# Altium integrated library Receiver.IntLib: 89 symbols (part 2 of 3)
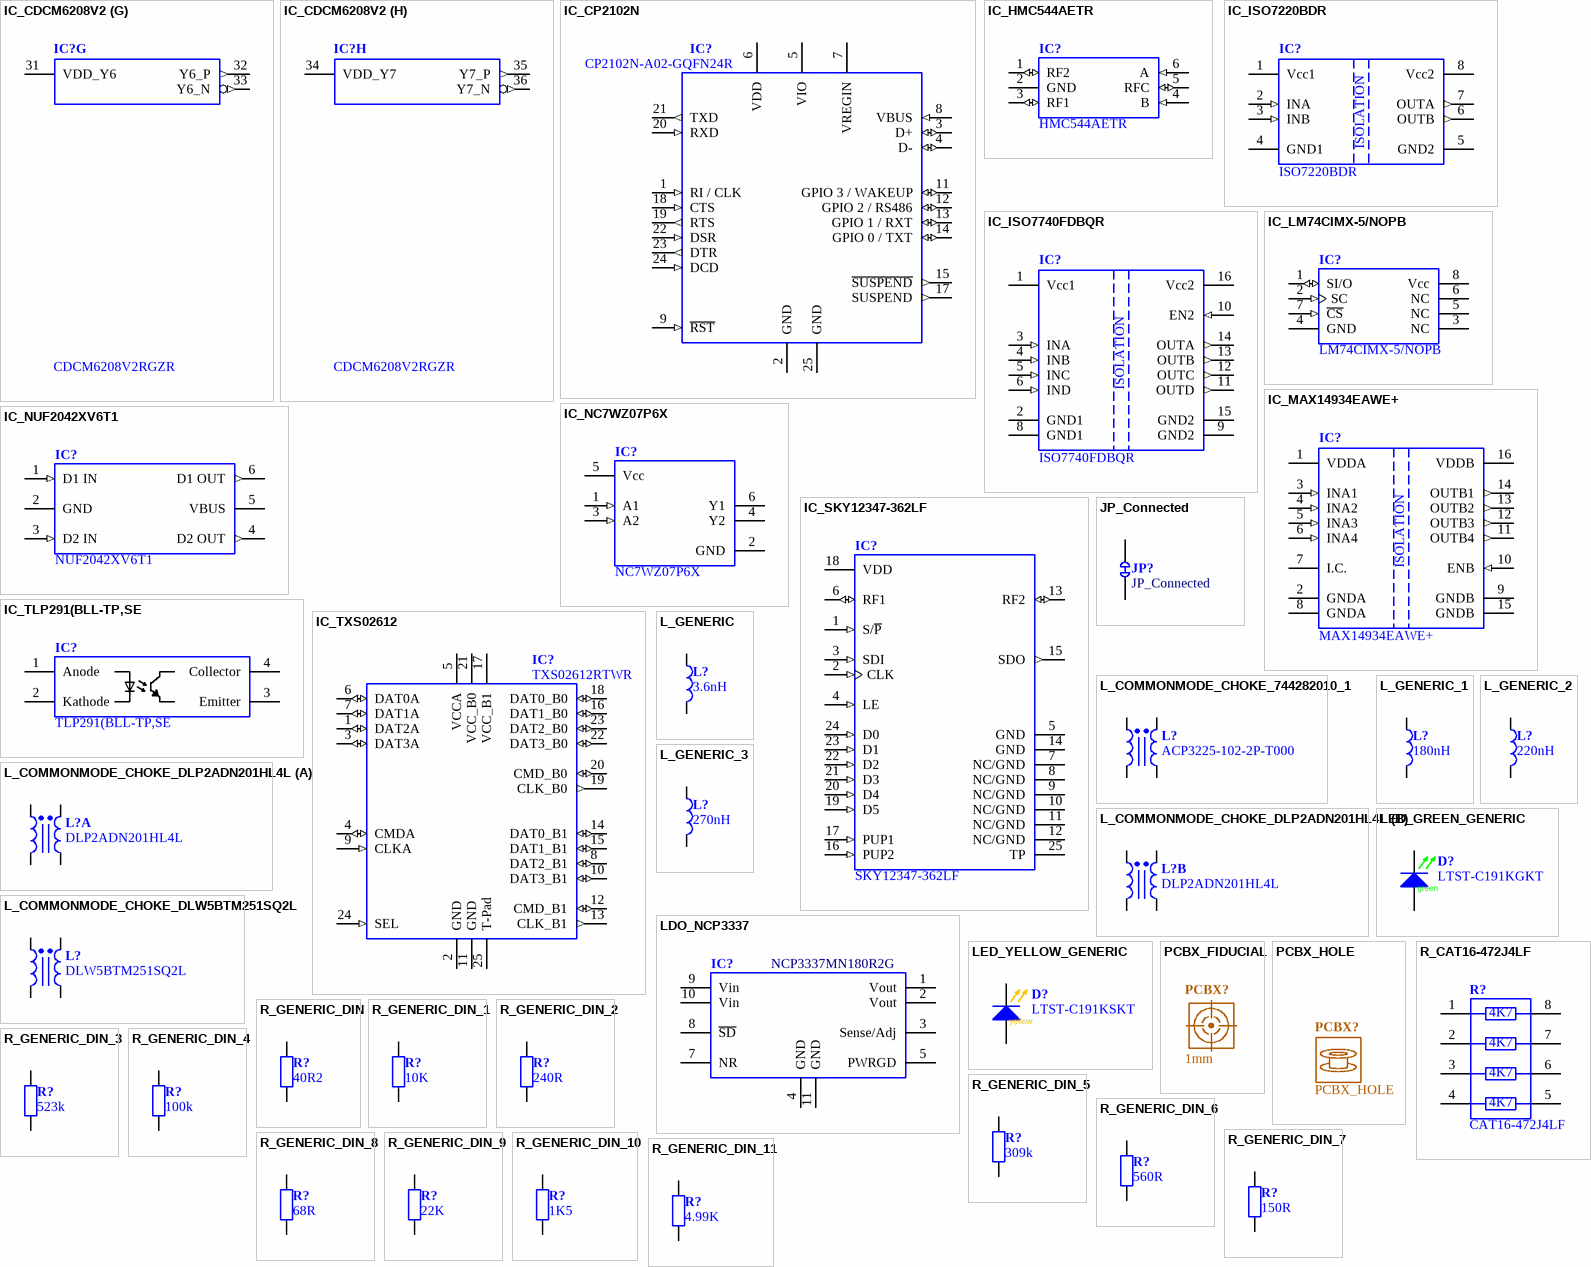
[diagram p3: symbols IC_CDCM6208V2 to R_GENERIC_DIN_11]

## IC_ISO7220BDR
designator IC?, comment ISO7220BDR
Dual-Channel Digital Isolator / Vcc: 3V3 or 5 V Supply / 4 kV ESD protection; Prometheus_Manufacturer: Texas Instruments; Prometheus_ManPartNo: ISO7220BDR; Prometheus_Comment: ISO7220BDR; DatasheetURL: https://www.ti.com/lit/ds/symlink/iso7220a.pdf
footprint SOIC127P600X175-8N IPC (SOIC, 8-Leads, Body 4.90x3.90mm, Pitch 1.27mm, IPC Medium Density)
pins: 1 Vcc1, 2 INA (in), 3 INB (in), 4 GND1, 5 GND2, 6 OUTB (out), 7 OUTA (out), 8 Vcc2
text: ISOLATION

## IC_ISO7740FDBQR
designator IC?, comment ISO7740FDBQR
High-Speed, Robust-EMC Reinforced Quad-Channel Digital Isolators / 100 Mbps data rate / Vcc: 2.25 V ... 5.5 V / 2.25 V to 5.5 V level translation; Prometheus_Manufacturer: Texas Instruments; Prometheus_ManPartNo: ISO7740FDBQR; Prometheus_Comment: ISO7740FDBQR; DatasheetURL: https://www.ti.com/lit/ds/symlink/iso7742.pdf
footprint SOP64P600X175-16N IPC (SOP, 16-Leads, Body 4.91x3.90mm, Pitch 0.64mm, IPC Medium Density)
pins: 1 Vcc1, 2 GND1, 3 INA (in), 4 INB (in), 5 INC (in), 6 IND (in), 8 GND1, 9 GND2, 10 EN2 (in), 11 OUTD (out), 12 OUTC (out), 13 OUTB (out), 14 OUTA (out), 15 GND2, 16 Vcc2
text: ISOLATION

## IC_LM74CIMX-5/NOPB
designator IC?, comment LM74CIMX-5/NOPB
SPI 12-Bit Plus Sign Temperature Sensor / 0.0625°C Temperature Resolution; Prometheus_Manufacturer: Texas Instruments; Prometheus_ManPartNo: LM74CIMX-5/NOPB; Prometheus_Comment: LM74CIMX-5/NOPB; DatasheetURL: https://www.ti.com/lit/ds/symlink/lm74.pdf
footprint SOIC127P600X175-8N IPC (SOIC, 8-Leads, Body 4.90x3.90mm, Pitch 1.27mm, IPC Medium Density)
pins: 1 SI/O (io), 2 SC (in), 3 NC, 4 GND, 5 NC, 6 NC, 7 ~{CS} (in), 8 Vcc

## IC_MAX14934EAWE+
designator IC?, comment MAX14934EAWE+
High-Speed, Robust-EMC Reinforced Six-Channel Digital Isolators / 100 Mbps data rate / Vcc: 2.25 V ... 5.5 V / 2.25 V to 5.5 V level translation; Prometheus_Manufacturer: Maxim Integrated; Prometheus_ManPartNo: MAX14934EAWE+; Prometheus_Comment: MAX14934EAWE+; DatasheetURL: https://datasheets.maximintegrated.com/en/ds/MAX14934-MAX14936.pdf
footprint SOIC127P1030X265-16N IPC (SOIC, 16-Leads, Body 10.30x7.50mm, Pitch 1.27mm, IPC Medium Density)
pins: 1 VDDA, 2 GNDA, 3 INA1 (in), 4 INA2 (in), 5 INA3 (in), 6 INA4 (in), 7 I.C., 8 GNDA, 9 GNDB, 10 ENB (in), 11 OUTB4 (out), 12 OUTB3 (out), 13 OUTB2 (out), 14 OUTB1 (out), 15 GNDB, 16 VDDB
text: ISOLATION

## IC_NC7WZ07P6X
designator IC?, comment NC7WZ07P6X
UHS Dual Buffer / Open-Drain Outputs / Vcc: 1.65 V to 5.50 V / Power Down High-Impedance Inputs / Outputs; Prometheus_Manufacturer: ON Semiconductor; Prometheus_ManPartNo: NC7WZ07P6X; Prometheus_Comment: NC7WZ07P6X
footprint TSOP65P210X110-6N IPC (TSOP, 6-Leads, Body 2.00x1.25mm, Pitch 0.65mm, IPC Medium Density)
pins: 1 A1 (in), 2 GND, 3 A2 (in), 4 Y2 (oc), 5 Vcc, 6 Y1 (oc)

## IC_NUF2042XV6T1
designator IC?, comment NUF2042XV6T1
USB Upstream Terminator with ESD Protection / Compliance with IEC61000-4-2 (Level 4) / 8 kV (Contact) / 15 kV (Air) / ESD Ratings: / Machine Model = C / Human Body Model = 3B; Prometheus_Manufacturer: ON Semiconductor; Prometheus_ManPartNo: NUF2042XV6T1; Prometheus_Comment: NUF2042XV6T1
footprint SOTFL50P160X60-6N IPC (SOTFL, 6-Leads, Body 1.60x1.60mm, Pitch 0.50mm, IPC Medium Density)
pins: 1 D1 IN (in), 2 GND, 3 D2 IN (in), 4 D2 OUT (out), 5 VBUS, 6 D1 OUT (out)

## IC_SKY12347-362LF
designator IC?, comment SKY12347-362LF
Six-Bit Digital Attenuator / Attenuation: 0.5 dB ... 31.5 dB / Serial or Parallel Driver; Prometheus_Manufacturer: Skyworks; Prometheus_ManPartNo: SKY12347-362LF; Prometheus_Comment: SKY12347-362LF; DatasheetURL: https://www.skyworksinc.com/-/media/SkyWorks/Documents/Products/501-600/201371B.pdf
footprint QFN50P400X400X100_HS-25N IPC (QFN, 24-Leads, Body 4.00x4.00mm, Pitch 0.50mm, Thermal Pad 2.68x2.68mm, IPC Medium Density)
pins: 1 S/~{P} (in), 2 CLK (in), 3 SDI (in), 4 LE (in), 5 GND (power), 6 RF1 (io), 7 NC/GND (power), 8 NC/GND (power), 9 NC/GND (power), 10 NC/GND (power), 11 NC/GND (power), 12 NC/GND (power), 13 RF2 (io), 14 GND, 15 SDO (out), 16 PUP2 (in), 17 PUP1 (in), 18 VDD (power), 19 D5 (in), 20 D4 (in), 21 D3 (in), 22 D2 (in), 23 D1 (in), 24 D0 (in), 25 TP (power)

## IC_TLP291(BLL-TP,SE
designator IC?, comment TLP291(BLL-TP,SE
Opto-Isolator / min. VCE = 80 V / min. Current Transfer Ratio = 200 % @ 5 mA; Prometheus_Manufacturer: Toshiba; Prometheus_ManPartNo: TLP291(BLL-TP,SE; Prometheus_Comment: TLP291(BLL-TP,SE
footprint SOP127P700X220-4N (SOP, 4-Leads, Body 2.65x4.55mm, Pitch 1.27mm, IPC Medium Density)
pins: 1 Anode, 2 Kathode, 3 Emitter, 4 Collector

## IC_TXS02612
designator IC?, comment TXS02612RTWR
Prometheus_Manufacturer: Analog Devices; Prometheus_ManPartNo: TXS02612RTWR; Prometheus_Comment: TXS02612RTWR
footprint QFN50P400X400X80_HS-25N IPC (QFN, 24-Leads, Body 4.00x4.00mm, Pitch 0.50mm, Thermal Pad 2.45x2.45mm, IPC Medium Density)
ibis TXS02612RTW (Model Description)
pins: 1 DAT2A (io), 2 GND, 3 DAT3A (io), 4 CMDA (io), 5 VCCA, 6 DAT0A (io), 7 DAT1A (io), 8 DAT2_B1 (io), 9 CLKA (in), 10 DAT3_B1 (io), 11 GND, 12 CMD_B1 (io), 13 CLK_B1 (out), 14 DAT0_B1 (io), 15 DAT1_B1 (io), 16 DAT1_B0 (io), 17 VCC_B1, 18 DAT0_B0 (io), 19 CLK_B0 (out), 20 CMD_B0 (io), 21 VCC_B0, 22 DAT3_B0 (io), 23 DAT2_B0 (io), 24 SEL (in), 25 T-Pad

## JP_Connected
designator JP?  (no BOM)
Prometheus_ID: *; Prometheus_ManPartNo: JP_Connected; Prometheus_Manufacturer: *; Prometheus_Comment: JP_Connected
footprint JP_Connected
pins: 1 +, 2 -

## L_COMMONMODE_CHOKE_744282010_1
designator L?, comment ACP3225-102-2P-T000
Prometheus_Manufacturer: TDK Corporation; Prometheus_ID: *; Prometheus_ManPartNo: ACP3225-102-2P-T000; Prometheus_Comment: ACP3225-102-2P-T000
footprint L_ACP3225-102-2P-T000
pins: 1, 2, 3, 4

## L_COMMONMODE_CHOKE_DLP2ADN201HL4L
designator L?, comment DLP2ADN201HL4L
Prometheus_Manufacturer: Murata Electronics; Prometheus_ID: *; Prometheus_ManPartNo: DLP2ADN201HL4L; Prometheus_Comment: DLP2ADN201HL4L
footprint CAF-50P200X100-8N (Chip Array, Flat, 8-Leads, Pitch 0.50mm,  Body 2.00x1.00mm,  IPC Medium Density)
part A pins: 1, 2, 7, 8
part B pins: 3, 4, 5, 6

## L_COMMONMODE_CHOKE_DLW5BTM251SQ2L
designator L?, comment DLW5BTM251SQ2L
250 OHM @ 100 MHz / I max. 5A / DCR max. 20 mOHM / VDC max. 50 V; Prometheus_Manufacturer: Murata Electronics; Prometheus_ID: *; Prometheus_ManPartNo: DLW5BTM251SQ2L; Prometheus_Comment: DLW5BTM251SQ2L
footprint L_COMMON_DLW5BTM251SQ2L Prometheus
pins: 1, 2, 3, 4

## L_GENERIC
designator L?, comment 3.6nH
Prometheus_ManPartNo: 744917036; Prometheus_Manufacturer: Wuerth Electronics; Prometheus_ID: *; Prometheus_Comment: 3.6nH
footprint L_0201_L [INDC0603L IPC] (0201 imperial (0603 metric) chip inductor, least copper)
footprint L_0201_M [INDC0603M IPC] (0201 imperial (0603 metric) chip inductor, max copper)
footprint L_0201_N [INDC0603N IPC] (0201 imperial (0603 metric) chip inductor, nominal copper)
footprint L_0402_L [INDC1005L IPC] (0402 imperial (1005 metric) chip inductor, least copper)
footprint L_0402_M [INDC1005M IPC] (0402 imperial (1005 metric) chip inductor, max copper)
footprint L_0402_N [INDC1005N IPC] (0402 imperial (1005 metric) chip inductor, nominal copper)
footprint L_0603_L [INDC1608L IPC] (0603 imperial (1608 metric) chip inductor, least copper)
footprint L_0603_M [INDC1608M IPC] (0603 imperial (1608 metric) chip inductor, max copper)
footprint L_0603_N [INDC1608N IPC] (0603 imperial (1608 metric) chip inductor, nominal copper)
footprint L_0805_L [INDC2013L IPC] (0805 imperial (2013 metric) chip inductor, least copper)
footprint L_0805_M [INDC2013M IPC] (0805 imperial (2013 metric) chip inductor, max copper)
footprint L_0805_N [INDC2013N IPC] (0805 imperial (2013 metric) chip inductorr, nominal copper)
footprint L_1206_L [INDC3216L IPC] (1206 imperial (3216 metric) chip inductor, least copperr)
footprint L_1206_M [INDC3216M IPC] (1206 imperial (3216 metric) chip inductor, max copper)
footprint L_1206_N [INDC3216N IPC] (1206 imperial (3216 metric) chip inductorr, nominal copper)
footprint L_THT_P500_RAD_950_H1350_Prometheus
pins: 1, 2

## L_GENERIC_1
designator L?, comment 180nH
Prometheus_ManPartNo: 744761218C; Prometheus_Manufacturer: Wuerth Electronics; Prometheus_ID: *; Prometheus_Comment: 180nH
footprint L_0201_L [INDC0603L IPC] (0201 imperial (0603 metric) chip inductor, least copper)
footprint L_0201_M [INDC0603M IPC] (0201 imperial (0603 metric) chip inductor, max copper)
footprint L_0201_N [INDC0603N IPC] (0201 imperial (0603 metric) chip inductor, nominal copper)
footprint L_0402_L [INDC1005L IPC] (0402 imperial (1005 metric) chip inductor, least copper)
footprint L_0402_M [INDC1005M IPC] (0402 imperial (1005 metric) chip inductor, max copper)
footprint L_0402_N [INDC1005N IPC] (0402 imperial (1005 metric) chip inductor, nominal copper)
footprint L_0603_L [INDC1608L IPC] (0603 imperial (1608 metric) chip inductor, least copper)
footprint L_0603_M [INDC1608M IPC] (0603 imperial (1608 metric) chip inductor, max copper)
footprint L_0603_N [INDC1608N IPC] (0603 imperial (1608 metric) chip inductor, nominal copper)
footprint L_0805_L [INDC2013L IPC] (0805 imperial (2013 metric) chip inductor, least copper)
footprint L_0805_M [INDC2013M IPC] (0805 imperial (2013 metric) chip inductor, max copper)
footprint L_0805_N [INDC2013N IPC] (0805 imperial (2013 metric) chip inductorr, nominal copper)
footprint L_1206_L [INDC3216L IPC] (1206 imperial (3216 metric) chip inductor, least copperr)
footprint L_1206_M [INDC3216M IPC] (1206 imperial (3216 metric) chip inductor, max copper)
footprint L_1206_N [INDC3216N IPC] (1206 imperial (3216 metric) chip inductorr, nominal copper)
footprint L_THT_P500_RAD_950_H1350_Prometheus
pins: 1, 2

## L_GENERIC_2
designator L?, comment 220nH
Prometheus_ManPartNo: 744761222C; Prometheus_Manufacturer: Wuerth Electronics; Prometheus_ID: *; Prometheus_Comment: 220nH
footprint L_0201_L [INDC0603L IPC] (0201 imperial (0603 metric) chip inductor, least copper)
footprint L_0201_M [INDC0603M IPC] (0201 imperial (0603 metric) chip inductor, max copper)
footprint L_0201_N [INDC0603N IPC] (0201 imperial (0603 metric) chip inductor, nominal copper)
footprint L_0402_L [INDC1005L IPC] (0402 imperial (1005 metric) chip inductor, least copper)
footprint L_0402_M [INDC1005M IPC] (0402 imperial (1005 metric) chip inductor, max copper)
footprint L_0402_N [INDC1005N IPC] (0402 imperial (1005 metric) chip inductor, nominal copper)
footprint L_0603_L [INDC1608L IPC] (0603 imperial (1608 metric) chip inductor, least copper)
footprint L_0603_M [INDC1608M IPC] (0603 imperial (1608 metric) chip inductor, max copper)
footprint L_0603_N [INDC1608N IPC] (0603 imperial (1608 metric) chip inductor, nominal copper)
footprint L_0805_L [INDC2013L IPC] (0805 imperial (2013 metric) chip inductor, least copper)
footprint L_0805_M [INDC2013M IPC] (0805 imperial (2013 metric) chip inductor, max copper)
footprint L_0805_N [INDC2013N IPC] (0805 imperial (2013 metric) chip inductorr, nominal copper)
footprint L_1206_L [INDC3216L IPC] (1206 imperial (3216 metric) chip inductor, least copperr)
footprint L_1206_M [INDC3216M IPC] (1206 imperial (3216 metric) chip inductor, max copper)
footprint L_1206_N [INDC3216N IPC] (1206 imperial (3216 metric) chip inductorr, nominal copper)
footprint L_THT_P500_RAD_950_H1350_Prometheus
pins: 1, 2

## L_GENERIC_3
designator L?, comment 270nH
Prometheus_ManPartNo: 744761227C; Prometheus_Manufacturer: Wuerth Electronics; Prometheus_ID: *; Prometheus_Comment: 270nH
footprint L_0201_L [INDC0603L IPC] (0201 imperial (0603 metric) chip inductor, least copper)
footprint L_0201_M [INDC0603M IPC] (0201 imperial (0603 metric) chip inductor, max copper)
footprint L_0201_N [INDC0603N IPC] (0201 imperial (0603 metric) chip inductor, nominal copper)
footprint L_0402_L [INDC1005L IPC] (0402 imperial (1005 metric) chip inductor, least copper)
footprint L_0402_M [INDC1005M IPC] (0402 imperial (1005 metric) chip inductor, max copper)
footprint L_0402_N [INDC1005N IPC] (0402 imperial (1005 metric) chip inductor, nominal copper)
footprint L_0603_L [INDC1608L IPC] (0603 imperial (1608 metric) chip inductor, least copper)
footprint L_0603_M [INDC1608M IPC] (0603 imperial (1608 metric) chip inductor, max copper)
footprint L_0603_N [INDC1608N IPC] (0603 imperial (1608 metric) chip inductor, nominal copper)
footprint L_0805_L [INDC2013L IPC] (0805 imperial (2013 metric) chip inductor, least copper)
footprint L_0805_M [INDC2013M IPC] (0805 imperial (2013 metric) chip inductor, max copper)
footprint L_0805_N [INDC2013N IPC] (0805 imperial (2013 metric) chip inductorr, nominal copper)
footprint L_1206_L [INDC3216L IPC] (1206 imperial (3216 metric) chip inductor, least copperr)
footprint L_1206_M [INDC3216M IPC] (1206 imperial (3216 metric) chip inductor, max copper)
footprint L_1206_N [INDC3216N IPC] (1206 imperial (3216 metric) chip inductorr, nominal copper)
footprint L_THT_P500_RAD_950_H1350_Prometheus
pins: 1, 2

## LDO_NCP3337
designator IC?, comment NCP3337MN180R2G
LDO / Vin max. 16 V / Vout 1V8; Prometheus_Manufacturer: ON Semiconductor; Prometheus_ManPartNo: NCP3337MN180R2G; Prometheus_Comment: NCP3337MN180R2G
footprint SON50P300X100_HS-11N (SON, 10-Leads, Body 3.00x3.00mm, Pitch 0.50mm, Thermal Pad 2.50x1.68mm, IPC Medium Density)
pins: 1 Vout, 2 Vout, 3 Sense/Adj, 4 GND, 5 PWRGD (oc), 7 NR, 8 ~{SD}, 9 Vin, 10 Vin, 11 GND

## LED_GREEN_GENERIC
designator D?, comment LTST-C191KGKT
Prometheus_Manufacturer: Lite-On Inc.; Prometheus_ID: *; Prometheus_ManPartNo: LTST-C191KGKT; Prometheus_Comment: LTST-C191KGKT; ComponentLink1Description: Datasheet; ComponentLink1URL: https://optoelectronics.liteon.com/upload/download/DS22-2000-228/LTST-C191KGKT.PDF
footprint LED_0805-GREEN_L_AK (green LED in 0805 package, least copper, AK pins)
footprint LED_0805-GREEN_M_AK (green LED in 0805 package, max copper, AK pins)
footprint LED_0805-GREEN_N_AK (green LED in 0805 package, nominal copper, AK pins)
footprint LED_0603-GREEN_L_AK (green LED in 0603 package, least copper, AK pins)
footprint LED_0603-GREEN_M_AK (green LED in 0603 package, maximum copper, AK pins)
footprint LED_0603-GREEN_N_AK (green LED in 0603 package, nominal copper, AK pins)
pins: A, K
text: green

## LED_YELLOW_GENERIC
designator D?, comment LTST-C191KSKT
Prometheus_ID: *; Prometheus_ManPartNo: LTST-C191KSKT; Prometheus_Manufacturer: *; Prometheus_Comment: LTST-C191KSKT; ComponentLink1Description: Datasheet; ComponentLink1URL: https://optoelectronics.liteon.com/upload/download/DS22-2000-224/LTST-C191KSKT.PDF
footprint LED_0805-YELLOW_N_AK (yellow LED in 0805 package, nominal copper, AK pins)
footprint LED_0805-YELLOW_L_AK (yellow LED in 0805 package, least copper, AK pins)
footprint LED_0805-YELLOW_M_AK (yellow LED in 0805 package, max copper, AK pins)
footprint LED_0603-YELLOW_L_AK (yellow LED in 0603 package, least copper, AK pins)
footprint LED_0603-YELLOW_N_AK (yellow LED in 0603 package, nominal copper, AK pins)
footprint LED_0603-YELLOW_M_AK (yellow LED in 0603 package, maximum copper, AK pins)
pins: A, K
text: yellow

## PCBX_FIDUCIAL
designator PCBX?, comment 1mm  (no BOM)
fiducial mark; Prometheus_ID: *; Prometheus_ManPartNo: 1mm; Prometheus_Manufacturer: *; Prometheus_Comment: 1mm
footprint FIDUCIAL_DOUBLESIDE_1mm (doublesided fiducial 1mm)
footprint FIDUCIAL_SINGLESIDE_1mm (singlesided fiducial 1mm)

## PCBX_HOLE
designator PCBX?  (no BOM)
generic PCB hole; Prometheus_ID: *; Prometheus_ManPartNo: PCBX_HOLE; Prometheus_Manufacturer: *; Prometheus_Comment: PCBX_HOLE
footprint TP_FANGFLOCH (Fangloch fuer Testpunkte)
footprint TP_LANGLOCH (Langloch fuer Testpunkte)

## R_CAT16-472J4LF
designator R?, comment CAT16-472J4LF
Resitor array 4 x 4K7 1206; Prometheus_Manufacturer: Bourns Inc.; Prometheus_ID: *; Prometheus_ManPartNo: CAT16-472J4LF; Prometheus_Comment: CAT16-472J4LF
footprint CAC-80P320X155-8N (Chip Array, Concave, 8-Leads, Pitch 0.80mm,  Body 3.20x1.55mm,  IPC Medium Density)
pins: 1, 2, 3, 4, 5, 6, 7, 8
text: 4K7

## R_GENERIC_DIN
designator R?, comment 40R2
Prometheus_ID: *; Prometheus_ManPartNo: 40R2; Prometheus_Manufacturer: *; Prometheus_Comment: 40R2
footprint R_0201_L [RESC0603L IPC] (0201 imperial (0603 metric) chip resistor, least copper)
footprint R_0201_M [RESC0603M IPC] (0201 imperial (0603 metric) chip resistor, max copper)
footprint R_0201_N [RESC0603N IPC] (0201 imperial (0603 metric) chip resistor, nominal copper)
footprint R_0603_L [RESC1608L IPC] (0603 imperial (1608 metric) chip resistor, least copper)
footprint R_0603_M [RESC1608M IPC] (0603 imperial (1608 metric) chip resistor, max copper)
footprint R_0603_N [RESC1608N IPC] (0603 imperial (1608 metric) chip resistor, nominal copper)
footprint R_0805_L [RESC2013L IPC] (0805 imperial (2013 metric) chip resistor, least copper)
footprint R_0805_M [RESC2013M IPC] (0805 imperial (2013 metric) chip resistor, max copper)
footprint R_0805_N [RESC2013N IPC] (0805 imperial (2013 metric) chip resistor, nominal copper)
footprint R_1206_L [RESC3216L IPC] (1206 imperial (3216 metric) chip resistor, least copper)
footprint R_1206_M [RESC3216M IPC] (1206 imperial (3216 metric) chip resistor, max copper)
footprint R_1206_N [RESC3216N IPC] (1206 imperial (3216 metric) chip resistor, nominal copper)
footprint R_1210_L [RESC3225L IPC] (1210 imperial (3225 metric) chip resistor, least copper)
footprint R_1210_M [RESC3225M IPC] (1210 imperial (3225 metric) chip resistor, max copper)
footprint R_1210_N [RESC3225N IPC] (1210 imperial (3225 metric) chip resistor, nominal copper)
footprint R_2512_L [RESC6332L IPC] (2512 imperial (6332 metric) chip resistor, least copper)
footprint R_2512_M [RESC6332M IPC] (2512 imperial (6332 metric) chip resistor, max copper)
footprint R_2512_N [RESC6332N IPC] (2512 imperial (6332 metric) chip resistor, nominal copper)
footprint R_0402_L [RESC1005L IPC] (0402 imperial (1005 metric) chip resistor, least copper)
footprint R_0402_M [RESC1005M IPC] (0402 imperial (1005 metric) chip resistor, max copper)
footprint R_0402_N [RESC1005N IPC] (0402 imperial (1005 metric) chip resistor, nominal copper)
pins: 1, 2

## R_GENERIC_DIN_1
designator R?, comment 10K
Prometheus_ID: *; Prometheus_ManPartNo: 10K; Prometheus_Manufacturer: *; Prometheus_Comment: 10K
footprint R_0201_L [RESC0603L IPC] (0201 imperial (0603 metric) chip resistor, least copper)
footprint R_0201_M [RESC0603M IPC] (0201 imperial (0603 metric) chip resistor, max copper)
footprint R_0201_N [RESC0603N IPC] (0201 imperial (0603 metric) chip resistor, nominal copper)
footprint R_0603_L [RESC1608L IPC] (0603 imperial (1608 metric) chip resistor, least copper)
footprint R_0603_M [RESC1608M IPC] (0603 imperial (1608 metric) chip resistor, max copper)
footprint R_0603_N [RESC1608N IPC] (0603 imperial (1608 metric) chip resistor, nominal copper)
footprint R_0805_L [RESC2013L IPC] (0805 imperial (2013 metric) chip resistor, least copper)
footprint R_0805_M [RESC2013M IPC] (0805 imperial (2013 metric) chip resistor, max copper)
footprint R_0805_N [RESC2013N IPC] (0805 imperial (2013 metric) chip resistor, nominal copper)
footprint R_1206_L [RESC3216L IPC] (1206 imperial (3216 metric) chip resistor, least copper)
footprint R_1206_M [RESC3216M IPC] (1206 imperial (3216 metric) chip resistor, max copper)
footprint R_1206_N [RESC3216N IPC] (1206 imperial (3216 metric) chip resistor, nominal copper)
footprint R_1210_L [RESC3225L IPC] (1210 imperial (3225 metric) chip resistor, least copper)
footprint R_1210_M [RESC3225M IPC] (1210 imperial (3225 metric) chip resistor, max copper)
footprint R_1210_N [RESC3225N IPC] (1210 imperial (3225 metric) chip resistor, nominal copper)
footprint R_2512_L [RESC6332L IPC] (2512 imperial (6332 metric) chip resistor, least copper)
footprint R_2512_M [RESC6332M IPC] (2512 imperial (6332 metric) chip resistor, max copper)
footprint R_2512_N [RESC6332N IPC] (2512 imperial (6332 metric) chip resistor, nominal copper)
footprint R_0402_L [RESC1005L IPC] (0402 imperial (1005 metric) chip resistor, least copper)
footprint R_0402_M [RESC1005M IPC] (0402 imperial (1005 metric) chip resistor, max copper)
footprint R_0402_N [RESC1005N IPC] (0402 imperial (1005 metric) chip resistor, nominal copper)
pins: 1, 2

## R_GENERIC_DIN_2
designator R?, comment 240R
Prometheus_ID: *; Prometheus_ManPartNo: 240R; Prometheus_Manufacturer: *; Prometheus_Comment: 240R
footprint R_0201_L [RESC0603L IPC] (0201 imperial (0603 metric) chip resistor, least copper)
footprint R_0201_M [RESC0603M IPC] (0201 imperial (0603 metric) chip resistor, max copper)
footprint R_0201_N [RESC0603N IPC] (0201 imperial (0603 metric) chip resistor, nominal copper)
footprint R_0603_L [RESC1608L IPC] (0603 imperial (1608 metric) chip resistor, least copper)
footprint R_0603_M [RESC1608M IPC] (0603 imperial (1608 metric) chip resistor, max copper)
footprint R_0603_N [RESC1608N IPC] (0603 imperial (1608 metric) chip resistor, nominal copper)
footprint R_0805_L [RESC2013L IPC] (0805 imperial (2013 metric) chip resistor, least copper)
footprint R_0805_M [RESC2013M IPC] (0805 imperial (2013 metric) chip resistor, max copper)
footprint R_0805_N [RESC2013N IPC] (0805 imperial (2013 metric) chip resistor, nominal copper)
footprint R_1206_L [RESC3216L IPC] (1206 imperial (3216 metric) chip resistor, least copper)
footprint R_1206_M [RESC3216M IPC] (1206 imperial (3216 metric) chip resistor, max copper)
footprint R_1206_N [RESC3216N IPC] (1206 imperial (3216 metric) chip resistor, nominal copper)
footprint R_1210_L [RESC3225L IPC] (1210 imperial (3225 metric) chip resistor, least copper)
footprint R_1210_M [RESC3225M IPC] (1210 imperial (3225 metric) chip resistor, max copper)
footprint R_1210_N [RESC3225N IPC] (1210 imperial (3225 metric) chip resistor, nominal copper)
footprint R_2512_L [RESC6332L IPC] (2512 imperial (6332 metric) chip resistor, least copper)
footprint R_2512_M [RESC6332M IPC] (2512 imperial (6332 metric) chip resistor, max copper)
footprint R_2512_N [RESC6332N IPC] (2512 imperial (6332 metric) chip resistor, nominal copper)
footprint R_0402_L [RESC1005L IPC] (0402 imperial (1005 metric) chip resistor, least copper)
footprint R_0402_M [RESC1005M IPC] (0402 imperial (1005 metric) chip resistor, max copper)
footprint R_0402_N [RESC1005N IPC] (0402 imperial (1005 metric) chip resistor, nominal copper)
pins: 1, 2

## R_GENERIC_DIN_3
designator R?, comment 523k
Prometheus_ID: *; Prometheus_ManPartNo: 523k; Prometheus_Manufacturer: *; Prometheus_Comment: 523k
footprint R_0201_L [RESC0603L IPC] (0201 imperial (0603 metric) chip resistor, least copper)
footprint R_0201_M [RESC0603M IPC] (0201 imperial (0603 metric) chip resistor, max copper)
footprint R_0201_N [RESC0603N IPC] (0201 imperial (0603 metric) chip resistor, nominal copper)
footprint R_0603_L [RESC1608L IPC] (0603 imperial (1608 metric) chip resistor, least copper)
footprint R_0603_M [RESC1608M IPC] (0603 imperial (1608 metric) chip resistor, max copper)
footprint R_0603_N [RESC1608N IPC] (0603 imperial (1608 metric) chip resistor, nominal copper)
footprint R_0805_L [RESC2013L IPC] (0805 imperial (2013 metric) chip resistor, least copper)
footprint R_0805_M [RESC2013M IPC] (0805 imperial (2013 metric) chip resistor, max copper)
footprint R_0805_N [RESC2013N IPC] (0805 imperial (2013 metric) chip resistor, nominal copper)
footprint R_1206_L [RESC3216L IPC] (1206 imperial (3216 metric) chip resistor, least copper)
footprint R_1206_M [RESC3216M IPC] (1206 imperial (3216 metric) chip resistor, max copper)
footprint R_1206_N [RESC3216N IPC] (1206 imperial (3216 metric) chip resistor, nominal copper)
footprint R_1210_L [RESC3225L IPC] (1210 imperial (3225 metric) chip resistor, least copper)
footprint R_1210_M [RESC3225M IPC] (1210 imperial (3225 metric) chip resistor, max copper)
footprint R_1210_N [RESC3225N IPC] (1210 imperial (3225 metric) chip resistor, nominal copper)
footprint R_2512_L [RESC6332L IPC] (2512 imperial (6332 metric) chip resistor, least copper)
footprint R_2512_M [RESC6332M IPC] (2512 imperial (6332 metric) chip resistor, max copper)
footprint R_2512_N [RESC6332N IPC] (2512 imperial (6332 metric) chip resistor, nominal copper)
footprint R_0402_L [RESC1005L IPC] (0402 imperial (1005 metric) chip resistor, least copper)
footprint R_0402_M [RESC1005M IPC] (0402 imperial (1005 metric) chip resistor, max copper)
footprint R_0402_N [RESC1005N IPC] (0402 imperial (1005 metric) chip resistor, nominal copper)
pins: 1, 2

## R_GENERIC_DIN_4
designator R?, comment 100k
Prometheus_ID: *; Prometheus_ManPartNo: 100k; Prometheus_Manufacturer: *; Prometheus_Comment: 100k
footprint R_0201_L [RESC0603L IPC] (0201 imperial (0603 metric) chip resistor, least copper)
footprint R_0201_M [RESC0603M IPC] (0201 imperial (0603 metric) chip resistor, max copper)
footprint R_0201_N [RESC0603N IPC] (0201 imperial (0603 metric) chip resistor, nominal copper)
footprint R_0603_L [RESC1608L IPC] (0603 imperial (1608 metric) chip resistor, least copper)
footprint R_0603_M [RESC1608M IPC] (0603 imperial (1608 metric) chip resistor, max copper)
footprint R_0603_N [RESC1608N IPC] (0603 imperial (1608 metric) chip resistor, nominal copper)
footprint R_0805_L [RESC2013L IPC] (0805 imperial (2013 metric) chip resistor, least copper)
footprint R_0805_M [RESC2013M IPC] (0805 imperial (2013 metric) chip resistor, max copper)
footprint R_0805_N [RESC2013N IPC] (0805 imperial (2013 metric) chip resistor, nominal copper)
footprint R_1206_L [RESC3216L IPC] (1206 imperial (3216 metric) chip resistor, least copper)
footprint R_1206_M [RESC3216M IPC] (1206 imperial (3216 metric) chip resistor, max copper)
footprint R_1206_N [RESC3216N IPC] (1206 imperial (3216 metric) chip resistor, nominal copper)
footprint R_1210_L [RESC3225L IPC] (1210 imperial (3225 metric) chip resistor, least copper)
footprint R_1210_M [RESC3225M IPC] (1210 imperial (3225 metric) chip resistor, max copper)
footprint R_1210_N [RESC3225N IPC] (1210 imperial (3225 metric) chip resistor, nominal copper)
footprint R_2512_L [RESC6332L IPC] (2512 imperial (6332 metric) chip resistor, least copper)
footprint R_2512_M [RESC6332M IPC] (2512 imperial (6332 metric) chip resistor, max copper)
footprint R_2512_N [RESC6332N IPC] (2512 imperial (6332 metric) chip resistor, nominal copper)
footprint R_0402_L [RESC1005L IPC] (0402 imperial (1005 metric) chip resistor, least copper)
footprint R_0402_M [RESC1005M IPC] (0402 imperial (1005 metric) chip resistor, max copper)
footprint R_0402_N [RESC1005N IPC] (0402 imperial (1005 metric) chip resistor, nominal copper)
pins: 1, 2

## R_GENERIC_DIN_5
designator R?, comment 309k
Prometheus_ID: *; Prometheus_ManPartNo: 309k; Prometheus_Manufacturer: *; Prometheus_Comment: 309k
footprint R_0201_L [RESC0603L IPC] (0201 imperial (0603 metric) chip resistor, least copper)
footprint R_0201_M [RESC0603M IPC] (0201 imperial (0603 metric) chip resistor, max copper)
footprint R_0201_N [RESC0603N IPC] (0201 imperial (0603 metric) chip resistor, nominal copper)
footprint R_0603_L [RESC1608L IPC] (0603 imperial (1608 metric) chip resistor, least copper)
footprint R_0603_M [RESC1608M IPC] (0603 imperial (1608 metric) chip resistor, max copper)
footprint R_0603_N [RESC1608N IPC] (0603 imperial (1608 metric) chip resistor, nominal copper)
footprint R_0805_L [RESC2013L IPC] (0805 imperial (2013 metric) chip resistor, least copper)
footprint R_0805_M [RESC2013M IPC] (0805 imperial (2013 metric) chip resistor, max copper)
footprint R_0805_N [RESC2013N IPC] (0805 imperial (2013 metric) chip resistor, nominal copper)
footprint R_1206_L [RESC3216L IPC] (1206 imperial (3216 metric) chip resistor, least copper)
footprint R_1206_M [RESC3216M IPC] (1206 imperial (3216 metric) chip resistor, max copper)
footprint R_1206_N [RESC3216N IPC] (1206 imperial (3216 metric) chip resistor, nominal copper)
footprint R_1210_L [RESC3225L IPC] (1210 imperial (3225 metric) chip resistor, least copper)
footprint R_1210_M [RESC3225M IPC] (1210 imperial (3225 metric) chip resistor, max copper)
footprint R_1210_N [RESC3225N IPC] (1210 imperial (3225 metric) chip resistor, nominal copper)
footprint R_2512_L [RESC6332L IPC] (2512 imperial (6332 metric) chip resistor, least copper)
footprint R_2512_M [RESC6332M IPC] (2512 imperial (6332 metric) chip resistor, max copper)
footprint R_2512_N [RESC6332N IPC] (2512 imperial (6332 metric) chip resistor, nominal copper)
footprint R_0402_L [RESC1005L IPC] (0402 imperial (1005 metric) chip resistor, least copper)
footprint R_0402_M [RESC1005M IPC] (0402 imperial (1005 metric) chip resistor, max copper)
footprint R_0402_N [RESC1005N IPC] (0402 imperial (1005 metric) chip resistor, nominal copper)
pins: 1, 2

## R_GENERIC_DIN_6
designator R?, comment 560R
Prometheus_ID: *; Prometheus_ManPartNo: 560R; Prometheus_Manufacturer: *; Prometheus_Comment: 560R
footprint R_0201_L [RESC0603L IPC] (0201 imperial (0603 metric) chip resistor, least copper)
footprint R_0201_M [RESC0603M IPC] (0201 imperial (0603 metric) chip resistor, max copper)
footprint R_0201_N [RESC0603N IPC] (0201 imperial (0603 metric) chip resistor, nominal copper)
footprint R_0603_L [RESC1608L IPC] (0603 imperial (1608 metric) chip resistor, least copper)
footprint R_0603_M [RESC1608M IPC] (0603 imperial (1608 metric) chip resistor, max copper)
footprint R_0603_N [RESC1608N IPC] (0603 imperial (1608 metric) chip resistor, nominal copper)
footprint R_0805_L [RESC2013L IPC] (0805 imperial (2013 metric) chip resistor, least copper)
footprint R_0805_M [RESC2013M IPC] (0805 imperial (2013 metric) chip resistor, max copper)
footprint R_0805_N [RESC2013N IPC] (0805 imperial (2013 metric) chip resistor, nominal copper)
footprint R_1206_L [RESC3216L IPC] (1206 imperial (3216 metric) chip resistor, least copper)
footprint R_1206_M [RESC3216M IPC] (1206 imperial (3216 metric) chip resistor, max copper)
footprint R_1206_N [RESC3216N IPC] (1206 imperial (3216 metric) chip resistor, nominal copper)
footprint R_1210_L [RESC3225L IPC] (1210 imperial (3225 metric) chip resistor, least copper)
footprint R_1210_M [RESC3225M IPC] (1210 imperial (3225 metric) chip resistor, max copper)
footprint R_1210_N [RESC3225N IPC] (1210 imperial (3225 metric) chip resistor, nominal copper)
footprint R_2512_L [RESC6332L IPC] (2512 imperial (6332 metric) chip resistor, least copper)
footprint R_2512_M [RESC6332M IPC] (2512 imperial (6332 metric) chip resistor, max copper)
footprint R_2512_N [RESC6332N IPC] (2512 imperial (6332 metric) chip resistor, nominal copper)
footprint R_0402_L [RESC1005L IPC] (0402 imperial (1005 metric) chip resistor, least copper)
footprint R_0402_M [RESC1005M IPC] (0402 imperial (1005 metric) chip resistor, max copper)
footprint R_0402_N [RESC1005N IPC] (0402 imperial (1005 metric) chip resistor, nominal copper)
pins: 1, 2

## R_GENERIC_DIN_7
designator R?, comment 150R
Prometheus_ID: *; Prometheus_ManPartNo: 150R; Prometheus_Manufacturer: *; Prometheus_Comment: 150R
footprint R_0201_L [RESC0603L IPC] (0201 imperial (0603 metric) chip resistor, least copper)
footprint R_0201_M [RESC0603M IPC] (0201 imperial (0603 metric) chip resistor, max copper)
footprint R_0201_N [RESC0603N IPC] (0201 imperial (0603 metric) chip resistor, nominal copper)
footprint R_0603_L [RESC1608L IPC] (0603 imperial (1608 metric) chip resistor, least copper)
footprint R_0603_M [RESC1608M IPC] (0603 imperial (1608 metric) chip resistor, max copper)
footprint R_0603_N [RESC1608N IPC] (0603 imperial (1608 metric) chip resistor, nominal copper)
footprint R_0805_L [RESC2013L IPC] (0805 imperial (2013 metric) chip resistor, least copper)
footprint R_0805_M [RESC2013M IPC] (0805 imperial (2013 metric) chip resistor, max copper)
footprint R_0805_N [RESC2013N IPC] (0805 imperial (2013 metric) chip resistor, nominal copper)
footprint R_1206_L [RESC3216L IPC] (1206 imperial (3216 metric) chip resistor, least copper)
footprint R_1206_M [RESC3216M IPC] (1206 imperial (3216 metric) chip resistor, max copper)
footprint R_1206_N [RESC3216N IPC] (1206 imperial (3216 metric) chip resistor, nominal copper)
footprint R_1210_L [RESC3225L IPC] (1210 imperial (3225 metric) chip resistor, least copper)
footprint R_1210_M [RESC3225M IPC] (1210 imperial (3225 metric) chip resistor, max copper)
footprint R_1210_N [RESC3225N IPC] (1210 imperial (3225 metric) chip resistor, nominal copper)
footprint R_2512_L [RESC6332L IPC] (2512 imperial (6332 metric) chip resistor, least copper)
footprint R_2512_M [RESC6332M IPC] (2512 imperial (6332 metric) chip resistor, max copper)
footprint R_2512_N [RESC6332N IPC] (2512 imperial (6332 metric) chip resistor, nominal copper)
footprint R_0402_L [RESC1005L IPC] (0402 imperial (1005 metric) chip resistor, least copper)
footprint R_0402_M [RESC1005M IPC] (0402 imperial (1005 metric) chip resistor, max copper)
footprint R_0402_N [RESC1005N IPC] (0402 imperial (1005 metric) chip resistor, nominal copper)
pins: 1, 2

## R_GENERIC_DIN_8
designator R?, comment 68R
Prometheus_ID: *; Prometheus_ManPartNo: 68R; Prometheus_Manufacturer: *; Prometheus_Comment: 68R
footprint R_0201_L [RESC0603L IPC] (0201 imperial (0603 metric) chip resistor, least copper)
footprint R_0201_M [RESC0603M IPC] (0201 imperial (0603 metric) chip resistor, max copper)
footprint R_0201_N [RESC0603N IPC] (0201 imperial (0603 metric) chip resistor, nominal copper)
footprint R_0603_L [RESC1608L IPC] (0603 imperial (1608 metric) chip resistor, least copper)
footprint R_0603_M [RESC1608M IPC] (0603 imperial (1608 metric) chip resistor, max copper)
footprint R_0603_N [RESC1608N IPC] (0603 imperial (1608 metric) chip resistor, nominal copper)
footprint R_0805_L [RESC2013L IPC] (0805 imperial (2013 metric) chip resistor, least copper)
footprint R_0805_M [RESC2013M IPC] (0805 imperial (2013 metric) chip resistor, max copper)
footprint R_0805_N [RESC2013N IPC] (0805 imperial (2013 metric) chip resistor, nominal copper)
footprint R_1206_L [RESC3216L IPC] (1206 imperial (3216 metric) chip resistor, least copper)
footprint R_1206_M [RESC3216M IPC] (1206 imperial (3216 metric) chip resistor, max copper)
footprint R_1206_N [RESC3216N IPC] (1206 imperial (3216 metric) chip resistor, nominal copper)
footprint R_1210_L [RESC3225L IPC] (1210 imperial (3225 metric) chip resistor, least copper)
footprint R_1210_M [RESC3225M IPC] (1210 imperial (3225 metric) chip resistor, max copper)
footprint R_1210_N [RESC3225N IPC] (1210 imperial (3225 metric) chip resistor, nominal copper)
footprint R_2512_L [RESC6332L IPC] (2512 imperial (6332 metric) chip resistor, least copper)
footprint R_2512_M [RESC6332M IPC] (2512 imperial (6332 metric) chip resistor, max copper)
footprint R_2512_N [RESC6332N IPC] (2512 imperial (6332 metric) chip resistor, nominal copper)
footprint R_0402_L [RESC1005L IPC] (0402 imperial (1005 metric) chip resistor, least copper)
footprint R_0402_M [RESC1005M IPC] (0402 imperial (1005 metric) chip resistor, max copper)
footprint R_0402_N [RESC1005N IPC] (0402 imperial (1005 metric) chip resistor, nominal copper)
pins: 1, 2

## R_GENERIC_DIN_9
designator R?, comment 22K
Prometheus_ID: *; Prometheus_ManPartNo: 22K; Prometheus_Manufacturer: *; Prometheus_Comment: 22K
footprint R_0201_L [RESC0603L IPC] (0201 imperial (0603 metric) chip resistor, least copper)
footprint R_0201_M [RESC0603M IPC] (0201 imperial (0603 metric) chip resistor, max copper)
footprint R_0201_N [RESC0603N IPC] (0201 imperial (0603 metric) chip resistor, nominal copper)
footprint R_0603_L [RESC1608L IPC] (0603 imperial (1608 metric) chip resistor, least copper)
footprint R_0603_M [RESC1608M IPC] (0603 imperial (1608 metric) chip resistor, max copper)
footprint R_0603_N [RESC1608N IPC] (0603 imperial (1608 metric) chip resistor, nominal copper)
footprint R_0805_L [RESC2013L IPC] (0805 imperial (2013 metric) chip resistor, least copper)
footprint R_0805_M [RESC2013M IPC] (0805 imperial (2013 metric) chip resistor, max copper)
footprint R_0805_N [RESC2013N IPC] (0805 imperial (2013 metric) chip resistor, nominal copper)
footprint R_1206_L [RESC3216L IPC] (1206 imperial (3216 metric) chip resistor, least copper)
footprint R_1206_M [RESC3216M IPC] (1206 imperial (3216 metric) chip resistor, max copper)
footprint R_1206_N [RESC3216N IPC] (1206 imperial (3216 metric) chip resistor, nominal copper)
footprint R_1210_L [RESC3225L IPC] (1210 imperial (3225 metric) chip resistor, least copper)
footprint R_1210_M [RESC3225M IPC] (1210 imperial (3225 metric) chip resistor, max copper)
footprint R_1210_N [RESC3225N IPC] (1210 imperial (3225 metric) chip resistor, nominal copper)
footprint R_2512_L [RESC6332L IPC] (2512 imperial (6332 metric) chip resistor, least copper)
footprint R_2512_M [RESC6332M IPC] (2512 imperial (6332 metric) chip resistor, max copper)
footprint R_2512_N [RESC6332N IPC] (2512 imperial (6332 metric) chip resistor, nominal copper)
footprint R_0402_L [RESC1005L IPC] (0402 imperial (1005 metric) chip resistor, least copper)
footprint R_0402_M [RESC1005M IPC] (0402 imperial (1005 metric) chip resistor, max copper)
footprint R_0402_N [RESC1005N IPC] (0402 imperial (1005 metric) chip resistor, nominal copper)
pins: 1, 2

## R_GENERIC_DIN_10
designator R?, comment 1K5
Prometheus_ID: *; Prometheus_ManPartNo: 1K5; Prometheus_Manufacturer: *; Prometheus_Comment: 1K5
footprint R_0201_L [RESC0603L IPC] (0201 imperial (0603 metric) chip resistor, least copper)
footprint R_0201_M [RESC0603M IPC] (0201 imperial (0603 metric) chip resistor, max copper)
footprint R_0201_N [RESC0603N IPC] (0201 imperial (0603 metric) chip resistor, nominal copper)
footprint R_0603_L [RESC1608L IPC] (0603 imperial (1608 metric) chip resistor, least copper)
footprint R_0603_M [RESC1608M IPC] (0603 imperial (1608 metric) chip resistor, max copper)
footprint R_0603_N [RESC1608N IPC] (0603 imperial (1608 metric) chip resistor, nominal copper)
footprint R_0805_L [RESC2013L IPC] (0805 imperial (2013 metric) chip resistor, least copper)
footprint R_0805_M [RESC2013M IPC] (0805 imperial (2013 metric) chip resistor, max copper)
footprint R_0805_N [RESC2013N IPC] (0805 imperial (2013 metric) chip resistor, nominal copper)
footprint R_1206_L [RESC3216L IPC] (1206 imperial (3216 metric) chip resistor, least copper)
footprint R_1206_M [RESC3216M IPC] (1206 imperial (3216 metric) chip resistor, max copper)
footprint R_1206_N [RESC3216N IPC] (1206 imperial (3216 metric) chip resistor, nominal copper)
footprint R_1210_L [RESC3225L IPC] (1210 imperial (3225 metric) chip resistor, least copper)
footprint R_1210_M [RESC3225M IPC] (1210 imperial (3225 metric) chip resistor, max copper)
footprint R_1210_N [RESC3225N IPC] (1210 imperial (3225 metric) chip resistor, nominal copper)
footprint R_2512_L [RESC6332L IPC] (2512 imperial (6332 metric) chip resistor, least copper)
footprint R_2512_M [RESC6332M IPC] (2512 imperial (6332 metric) chip resistor, max copper)
footprint R_2512_N [RESC6332N IPC] (2512 imperial (6332 metric) chip resistor, nominal copper)
footprint R_0402_L [RESC1005L IPC] (0402 imperial (1005 metric) chip resistor, least copper)
footprint R_0402_M [RESC1005M IPC] (0402 imperial (1005 metric) chip resistor, max copper)
footprint R_0402_N [RESC1005N IPC] (0402 imperial (1005 metric) chip resistor, nominal copper)
pins: 1, 2

## R_GENERIC_DIN_11
designator R?, comment 4.99K
Prometheus_ID: *; Prometheus_ManPartNo: 4.99K; Prometheus_Manufacturer: *; Prometheus_Comment: 4.99K
footprint R_0201_L [RESC0603L IPC] (0201 imperial (0603 metric) chip resistor, least copper)
footprint R_0201_M [RESC0603M IPC] (0201 imperial (0603 metric) chip resistor, max copper)
footprint R_0201_N [RESC0603N IPC] (0201 imperial (0603 metric) chip resistor, nominal copper)
footprint R_0603_L [RESC1608L IPC] (0603 imperial (1608 metric) chip resistor, least copper)
footprint R_0603_M [RESC1608M IPC] (0603 imperial (1608 metric) chip resistor, max copper)
footprint R_0603_N [RESC1608N IPC] (0603 imperial (1608 metric) chip resistor, nominal copper)
footprint R_0805_L [RESC2013L IPC] (0805 imperial (2013 metric) chip resistor, least copper)
footprint R_0805_M [RESC2013M IPC] (0805 imperial (2013 metric) chip resistor, max copper)
footprint R_0805_N [RESC2013N IPC] (0805 imperial (2013 metric) chip resistor, nominal copper)
footprint R_1206_L [RESC3216L IPC] (1206 imperial (3216 metric) chip resistor, least copper)
footprint R_1206_M [RESC3216M IPC] (1206 imperial (3216 metric) chip resistor, max copper)
footprint R_1206_N [RESC3216N IPC] (1206 imperial (3216 metric) chip resistor, nominal copper)
footprint R_1210_L [RESC3225L IPC] (1210 imperial (3225 metric) chip resistor, least copper)
footprint R_1210_M [RESC3225M IPC] (1210 imperial (3225 metric) chip resistor, max copper)
footprint R_1210_N [RESC3225N IPC] (1210 imperial (3225 metric) chip resistor, nominal copper)
footprint R_2512_L [RESC6332L IPC] (2512 imperial (6332 metric) chip resistor, least copper)
footprint R_2512_M [RESC6332M IPC] (2512 imperial (6332 metric) chip resistor, max copper)
footprint R_2512_N [RESC6332N IPC] (2512 imperial (6332 metric) chip resistor, nominal copper)
footprint R_0402_L [RESC1005L IPC] (0402 imperial (1005 metric) chip resistor, least copper)
footprint R_0402_M [RESC1005M IPC] (0402 imperial (1005 metric) chip resistor, max copper)
footprint R_0402_N [RESC1005N IPC] (0402 imperial (1005 metric) chip resistor, nominal copper)
pins: 1, 2

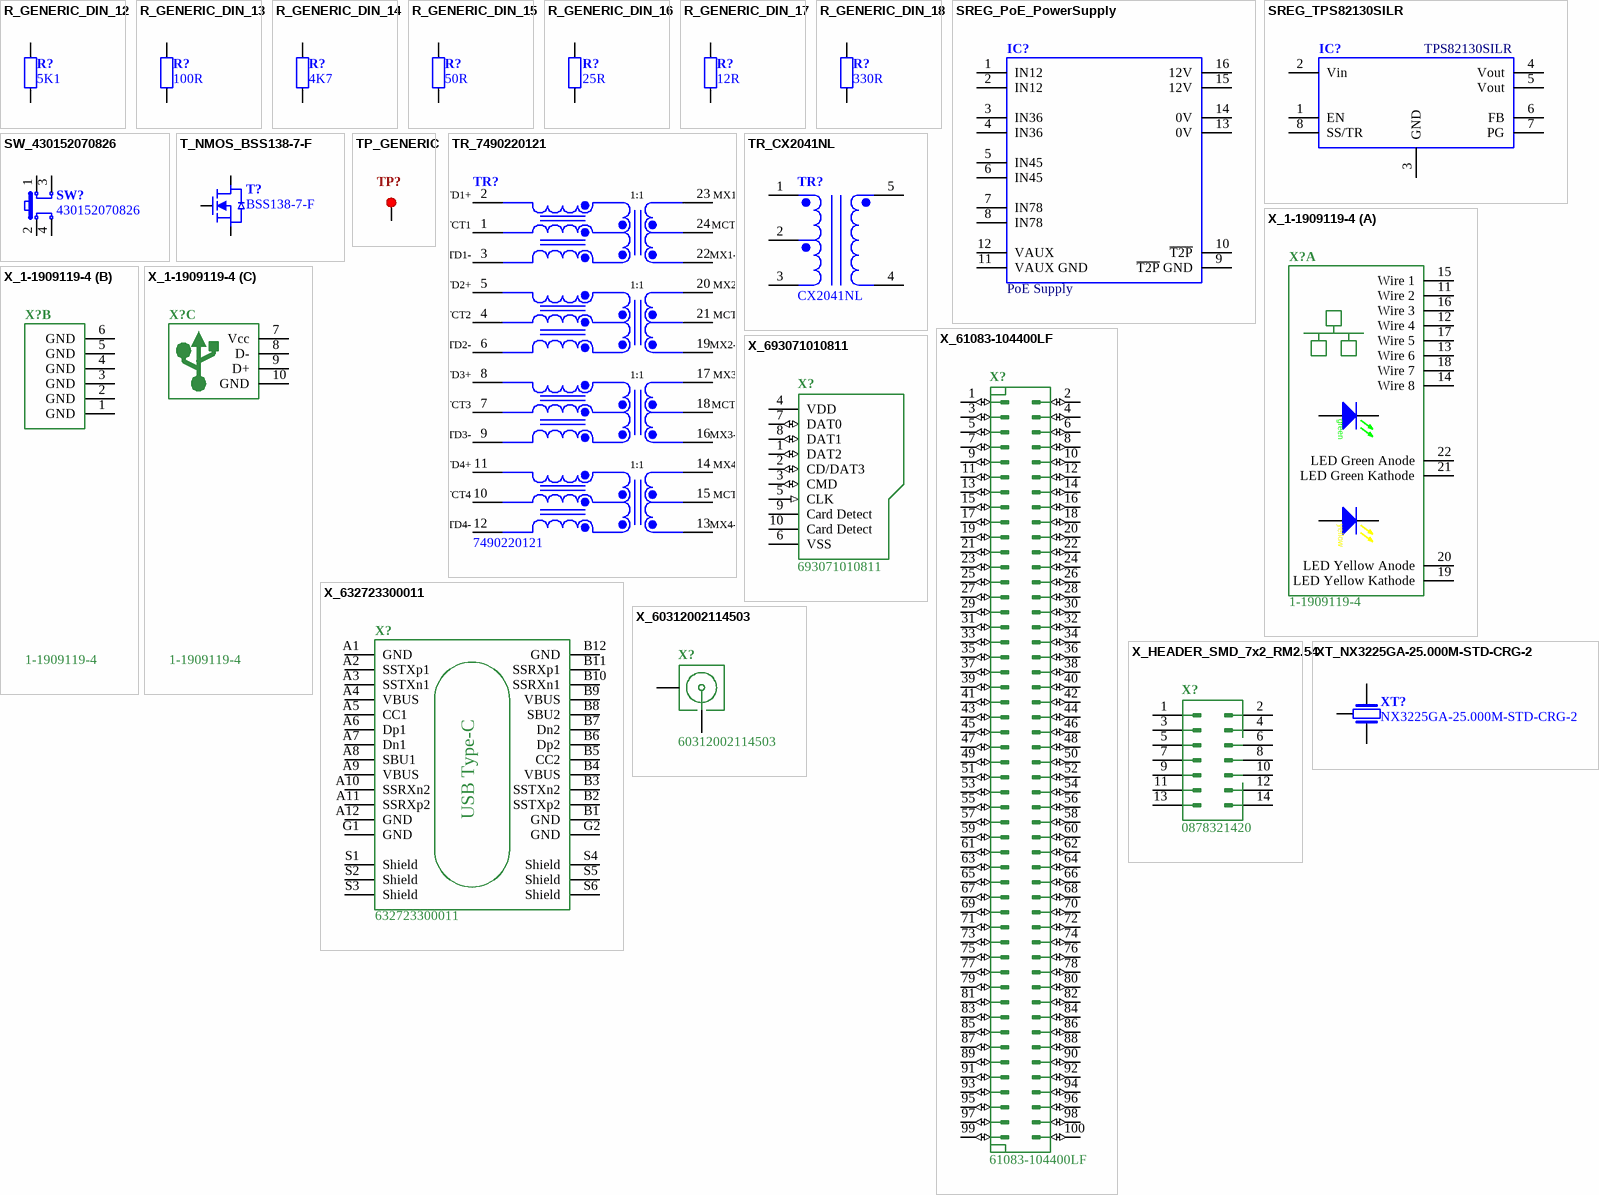
[diagram p2: symbols R_GENERIC_DIN_12 to XT_NX3225GA-25.000M-STD-CRG-2]

## R_GENERIC_DIN_12
designator R?, comment 5K1
Prometheus_ID: *; Prometheus_ManPartNo: 5K1; Prometheus_Manufacturer: *; Prometheus_Comment: 5K1
footprint R_0201_L [RESC0603L IPC] (0201 imperial (0603 metric) chip resistor, least copper)
footprint R_0201_M [RESC0603M IPC] (0201 imperial (0603 metric) chip resistor, max copper)
footprint R_0201_N [RESC0603N IPC] (0201 imperial (0603 metric) chip resistor, nominal copper)
footprint R_0603_L [RESC1608L IPC] (0603 imperial (1608 metric) chip resistor, least copper)
footprint R_0603_M [RESC1608M IPC] (0603 imperial (1608 metric) chip resistor, max copper)
footprint R_0603_N [RESC1608N IPC] (0603 imperial (1608 metric) chip resistor, nominal copper)
footprint R_0805_L [RESC2013L IPC] (0805 imperial (2013 metric) chip resistor, least copper)
footprint R_0805_M [RESC2013M IPC] (0805 imperial (2013 metric) chip resistor, max copper)
footprint R_0805_N [RESC2013N IPC] (0805 imperial (2013 metric) chip resistor, nominal copper)
footprint R_1206_L [RESC3216L IPC] (1206 imperial (3216 metric) chip resistor, least copper)
footprint R_1206_M [RESC3216M IPC] (1206 imperial (3216 metric) chip resistor, max copper)
footprint R_1206_N [RESC3216N IPC] (1206 imperial (3216 metric) chip resistor, nominal copper)
footprint R_1210_L [RESC3225L IPC] (1210 imperial (3225 metric) chip resistor, least copper)
footprint R_1210_M [RESC3225M IPC] (1210 imperial (3225 metric) chip resistor, max copper)
footprint R_1210_N [RESC3225N IPC] (1210 imperial (3225 metric) chip resistor, nominal copper)
footprint R_2512_L [RESC6332L IPC] (2512 imperial (6332 metric) chip resistor, least copper)
footprint R_2512_M [RESC6332M IPC] (2512 imperial (6332 metric) chip resistor, max copper)
footprint R_2512_N [RESC6332N IPC] (2512 imperial (6332 metric) chip resistor, nominal copper)
footprint R_0402_L [RESC1005L IPC] (0402 imperial (1005 metric) chip resistor, least copper)
footprint R_0402_M [RESC1005M IPC] (0402 imperial (1005 metric) chip resistor, max copper)
footprint R_0402_N [RESC1005N IPC] (0402 imperial (1005 metric) chip resistor, nominal copper)
pins: 1, 2

## R_GENERIC_DIN_13
designator R?, comment 100R
Prometheus_ID: *; Prometheus_ManPartNo: 100R; Prometheus_Manufacturer: *; Prometheus_Comment: 100R
footprint R_0201_L [RESC0603L IPC] (0201 imperial (0603 metric) chip resistor, least copper)
footprint R_0201_M [RESC0603M IPC] (0201 imperial (0603 metric) chip resistor, max copper)
footprint R_0201_N [RESC0603N IPC] (0201 imperial (0603 metric) chip resistor, nominal copper)
footprint R_0603_L [RESC1608L IPC] (0603 imperial (1608 metric) chip resistor, least copper)
footprint R_0603_M [RESC1608M IPC] (0603 imperial (1608 metric) chip resistor, max copper)
footprint R_0603_N [RESC1608N IPC] (0603 imperial (1608 metric) chip resistor, nominal copper)
footprint R_0805_L [RESC2013L IPC] (0805 imperial (2013 metric) chip resistor, least copper)
footprint R_0805_M [RESC2013M IPC] (0805 imperial (2013 metric) chip resistor, max copper)
footprint R_0805_N [RESC2013N IPC] (0805 imperial (2013 metric) chip resistor, nominal copper)
footprint R_1206_L [RESC3216L IPC] (1206 imperial (3216 metric) chip resistor, least copper)
footprint R_1206_M [RESC3216M IPC] (1206 imperial (3216 metric) chip resistor, max copper)
footprint R_1206_N [RESC3216N IPC] (1206 imperial (3216 metric) chip resistor, nominal copper)
footprint R_1210_L [RESC3225L IPC] (1210 imperial (3225 metric) chip resistor, least copper)
footprint R_1210_M [RESC3225M IPC] (1210 imperial (3225 metric) chip resistor, max copper)
footprint R_1210_N [RESC3225N IPC] (1210 imperial (3225 metric) chip resistor, nominal copper)
footprint R_2512_L [RESC6332L IPC] (2512 imperial (6332 metric) chip resistor, least copper)
footprint R_2512_M [RESC6332M IPC] (2512 imperial (6332 metric) chip resistor, max copper)
footprint R_2512_N [RESC6332N IPC] (2512 imperial (6332 metric) chip resistor, nominal copper)
footprint R_0402_L [RESC1005L IPC] (0402 imperial (1005 metric) chip resistor, least copper)
footprint R_0402_M [RESC1005M IPC] (0402 imperial (1005 metric) chip resistor, max copper)
footprint R_0402_N [RESC1005N IPC] (0402 imperial (1005 metric) chip resistor, nominal copper)
pins: 1, 2

## R_GENERIC_DIN_14
designator R?, comment 4K7
Prometheus_ID: *; Prometheus_ManPartNo: 4K7; Prometheus_Manufacturer: *; Prometheus_Comment: 4K7
footprint R_0201_L [RESC0603L IPC] (0201 imperial (0603 metric) chip resistor, least copper)
footprint R_0201_M [RESC0603M IPC] (0201 imperial (0603 metric) chip resistor, max copper)
footprint R_0201_N [RESC0603N IPC] (0201 imperial (0603 metric) chip resistor, nominal copper)
footprint R_0603_L [RESC1608L IPC] (0603 imperial (1608 metric) chip resistor, least copper)
footprint R_0603_M [RESC1608M IPC] (0603 imperial (1608 metric) chip resistor, max copper)
footprint R_0603_N [RESC1608N IPC] (0603 imperial (1608 metric) chip resistor, nominal copper)
footprint R_0805_L [RESC2013L IPC] (0805 imperial (2013 metric) chip resistor, least copper)
footprint R_0805_M [RESC2013M IPC] (0805 imperial (2013 metric) chip resistor, max copper)
footprint R_0805_N [RESC2013N IPC] (0805 imperial (2013 metric) chip resistor, nominal copper)
footprint R_1206_L [RESC3216L IPC] (1206 imperial (3216 metric) chip resistor, least copper)
footprint R_1206_M [RESC3216M IPC] (1206 imperial (3216 metric) chip resistor, max copper)
footprint R_1206_N [RESC3216N IPC] (1206 imperial (3216 metric) chip resistor, nominal copper)
footprint R_1210_L [RESC3225L IPC] (1210 imperial (3225 metric) chip resistor, least copper)
footprint R_1210_M [RESC3225M IPC] (1210 imperial (3225 metric) chip resistor, max copper)
footprint R_1210_N [RESC3225N IPC] (1210 imperial (3225 metric) chip resistor, nominal copper)
footprint R_2512_L [RESC6332L IPC] (2512 imperial (6332 metric) chip resistor, least copper)
footprint R_2512_M [RESC6332M IPC] (2512 imperial (6332 metric) chip resistor, max copper)
footprint R_2512_N [RESC6332N IPC] (2512 imperial (6332 metric) chip resistor, nominal copper)
footprint R_0402_L [RESC1005L IPC] (0402 imperial (1005 metric) chip resistor, least copper)
footprint R_0402_M [RESC1005M IPC] (0402 imperial (1005 metric) chip resistor, max copper)
footprint R_0402_N [RESC1005N IPC] (0402 imperial (1005 metric) chip resistor, nominal copper)
pins: 1, 2

## R_GENERIC_DIN_15
designator R?, comment 50R
Prometheus_ID: *; Prometheus_ManPartNo: 50R; Prometheus_Manufacturer: *; Prometheus_Comment: 50R
footprint R_0201_L [RESC0603L IPC] (0201 imperial (0603 metric) chip resistor, least copper)
footprint R_0201_M [RESC0603M IPC] (0201 imperial (0603 metric) chip resistor, max copper)
footprint R_0201_N [RESC0603N IPC] (0201 imperial (0603 metric) chip resistor, nominal copper)
footprint R_0603_L [RESC1608L IPC] (0603 imperial (1608 metric) chip resistor, least copper)
footprint R_0603_M [RESC1608M IPC] (0603 imperial (1608 metric) chip resistor, max copper)
footprint R_0603_N [RESC1608N IPC] (0603 imperial (1608 metric) chip resistor, nominal copper)
footprint R_0805_L [RESC2013L IPC] (0805 imperial (2013 metric) chip resistor, least copper)
footprint R_0805_M [RESC2013M IPC] (0805 imperial (2013 metric) chip resistor, max copper)
footprint R_0805_N [RESC2013N IPC] (0805 imperial (2013 metric) chip resistor, nominal copper)
footprint R_1206_L [RESC3216L IPC] (1206 imperial (3216 metric) chip resistor, least copper)
footprint R_1206_M [RESC3216M IPC] (1206 imperial (3216 metric) chip resistor, max copper)
footprint R_1206_N [RESC3216N IPC] (1206 imperial (3216 metric) chip resistor, nominal copper)
footprint R_1210_L [RESC3225L IPC] (1210 imperial (3225 metric) chip resistor, least copper)
footprint R_1210_M [RESC3225M IPC] (1210 imperial (3225 metric) chip resistor, max copper)
footprint R_1210_N [RESC3225N IPC] (1210 imperial (3225 metric) chip resistor, nominal copper)
footprint R_2512_L [RESC6332L IPC] (2512 imperial (6332 metric) chip resistor, least copper)
footprint R_2512_M [RESC6332M IPC] (2512 imperial (6332 metric) chip resistor, max copper)
footprint R_2512_N [RESC6332N IPC] (2512 imperial (6332 metric) chip resistor, nominal copper)
footprint R_0402_L [RESC1005L IPC] (0402 imperial (1005 metric) chip resistor, least copper)
footprint R_0402_M [RESC1005M IPC] (0402 imperial (1005 metric) chip resistor, max copper)
footprint R_0402_N [RESC1005N IPC] (0402 imperial (1005 metric) chip resistor, nominal copper)
pins: 1, 2